# Altium footprint library SIMIDseries.PcbLib: 1 footprints
Each footprint in its own frame and in the unit in brackets; x right, y up, seen from the top. Pads: shape width x height; smd on the part's side, far side on the other; paste and mask are expansions set on the pad; w line width, h text height; cw(c..) or ccw(c..) is an arc to the next point about the centre after c.
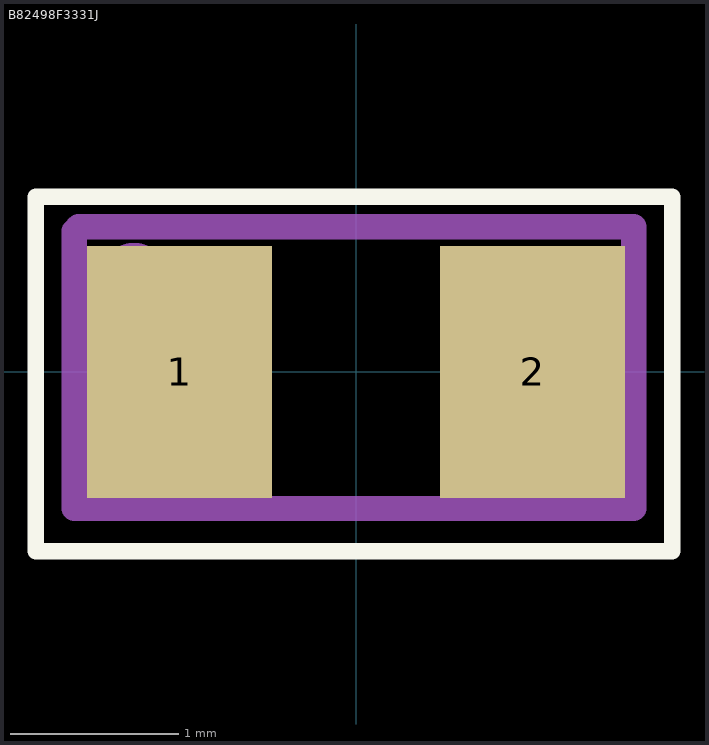
[diagram p0: the footprint, top view; thin cyan lines are the x and y axes]

## B82498F3331J [mm]
pads (2):
  rect 1.1x1.5 smd: 1(-1.05,0) 2(1.05,0)
Top Overlay:
  lines w0.1: -1.905,-1.067 -1.905,1.041 1.88,1.041 1.88,-1.067 -1.905,-1.067
Mechanical 29:
  lines w0.15: -1.676,-0.813 -1.676,0.838 -1.651,0.864 1.651,0.864 1.651,-0.813 -1.676,-0.813
  lines w0.254: -1.27,0.61 ccw(c-1.321,0.584) -1.265,0.595
  text ".Designator" at -0.914,-0.33 h0.76
3D body "IND_EPCOS_B82498F.step": height 1.4, standoff 0, extent -1.156,-0.851 1.156,0.851